# Altium schematic symbol library PIC18F67K40-E_PT.SchLib: 1 symbol
Pins are listed as number, name and electrical type; pins without a type are passive.

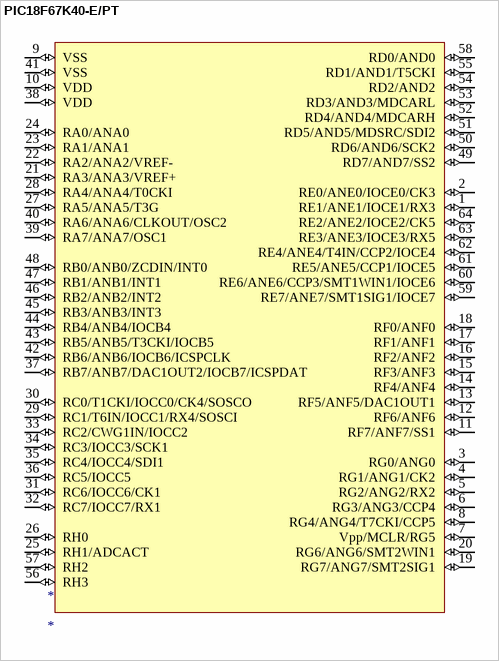
[diagram p0: symbol PIC18F67K40-E/PT]

## PIC18F67K40-E/PT
designator *
footprint 64TQFP
footprint 64TQFP
pins: 1 RE1/ANE1/IOCE1/RX3 (io) "RE1", 2 RE0/ANE0/IOCE0/CK3 (io) "RE1", 3 RG0/ANG0 (io) "RE1", 4 RG1/ANG1/CK2 (io) "RE1", 5 RG2/ANG2/RX2 (io) "RE1", 6 RG3/ANG3/CCP4 (io) "RE1", 7 Vpp/MCLR/RG5 (io) "RE1", 8 RG4/ANG4/T7CKI/CCP5 (io) "RE1", 9 VSS (io) "RE1", 10 VDD (io) "RE1", 11 RF7/ANF7/SS1 (io) "RE1", 12 RF6/ANF6 (io) "RE1", 13 RF5/ANF5/DAC1OUT1 (io) "RE1", 14 RF4/ANF4 (io) "RE1", 15 RF3/ANF3 (io) "RE1", 16 RF2/ANF2 (io) "RE1", 17 RF1/ANF1 (io) "RE1", 18 RF0/ANF0 (io) "RE1", 19 RG7/ANG7/SMT2SIG1 (io) "RE1", 20 RG6/ANG6/SMT2WIN1 (io) "RE1", 21 RA3/ANA3/VREF+ (io) "RE1", 22 RA2/ANA2/VREF- (io) "RE1", 23 RA1/ANA1 (io) "RE1", 24 RA0/ANA0 (io) "RE1", 25 RH1/ADCACT (io) "RE1", 26 RH0 (io) "RE1", 27 RA5/ANA5/T3G (io) "RE1", 28 RA4/ANA4/T0CKI (io) "RE1", 29 RC1/T6IN/IOCC1/RX4/SOSCI (io) "RE1", 30 RC0/T1CKI/IOCC0/CK4/SOSCO (io) "RE1", 31 RC6/IOCC6/CK1 (io) "RE1", 32 RC7/IOCC7/RX1 (io) "RE1", 33 RC2/CWG1IN/IOCC2 (io) "RE1", 34 RC3/IOCC3/SCK1 (io) "RE1", 35 RC4/IOCC4/SDI1 (io) "RE1", 36 RC5/IOCC5 (io) "RE1", 37 RB7/ANB7/DAC1OUT2/IOCB7/ICSPDAT (io) "RE1", 38 VDD (io) "RE1", 39 RA7/ANA7/OSC1 (io) "RE1", 40 RA6/ANA6/CLKOUT/OSC2 (io) "RE1", 41 VSS (io) "RE1", 42 RB6/ANB6/IOCB6/ICSPCLK (io) "RE1", 43 RB5/ANB5/T3CKI/IOCB5 (io) "RE1", 44 RB4/ANB4/IOCB4 (io) "RE1", 45 RB3/ANB3/INT3 (io) "RE1", 46 RB2/ANB2/INT2 (io) "RE1", 47 RB1/ANB1/INT1 (io) "RE1", 48 RB0/ANB0/ZCDIN/INT0 (io) "RE1", 49 RD7/AND7/SS2 (io) "RE1", 50 RD6/AND6/SCK2 (io) "RE1", 51 RD5/AND5/MDSRC/SDI2 (io) "RE1", 52 RD4/AND4/MDCARH (io) "RE1", 53 RD3/AND3/MDCARL (io) "RE1", 54 RD2/AND2 (io) "RE1", 55 RD1/AND1/T5CKI (io) "RE1", 56 RH3 (io) "RE1", 57 RH2 (io) "RE1", 58 RD0/AND0 (io) "RE1", 59 RE7/ANE7/SMT1SIG1/IOCE7 (io) "RE1", 60 RE6/ANE6/CCP3/SMT1WIN1/IOCE6 (io) "RE1", 61 RE5/ANE5/CCP1/IOCE5 (io) "RE1", 62 RE4/ANE4/T4IN/CCP2/IOCE4 (io) "RE1", 63 RE3/ANE3/IOCE3/RX5 (io) "RE1", 64 RE2/ANE2/IOCE2/CK5 (io) "RE1"